# Altium footprint library MODULE_EK-TM4C123GXL.PcbLib: 1 footprints
Each footprint in its own frame and in the unit in brackets; x right, y up, seen from the top. Pads: shape width x height; smd on the part's side, far side on the other; paste and mask are expansions set on the pad; w line width, h text height; cw(c..) or ccw(c..) is an arc to the next point about the centre after c.
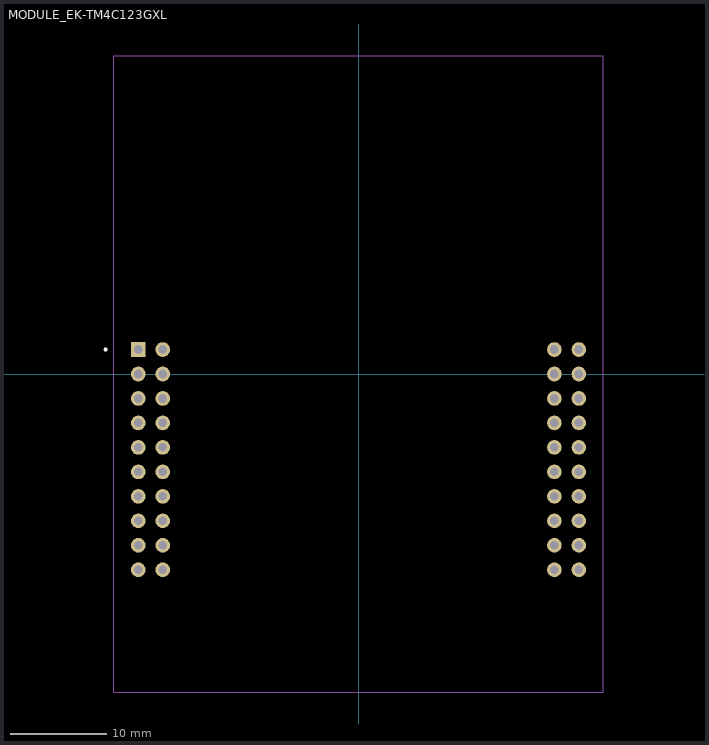
[diagram p0: the footprint, top view; thin cyan lines are the x and y axes]

## MODULE_EK-TM4C123GXL [mm]
pads (40):
  rect 1.52x1.52 hole 0.89: J1_1(-22.86,2.54)
  round 1.52 hole 0.89: J1_2(-22.86,0) J1_3(-22.86,-2.54) J1_4(-22.86,-5.08) J1_5(-22.86,-7.62) J1_6(-22.86,-10.16) J1_7(-22.86,-12.7) J1_8(-22.86,-15.24) J1_9(-22.86,-17.78) J1_10(-22.86,-20.32) J2_1(22.86,2.54) J2_2(22.86,0) J2_3(22.86,-2.54) J2_4(22.86,-5.08) J2_5(22.86,-7.62) J2_6(22.86,-10.16) J2_7(22.86,-12.7) J2_8(22.86,-15.24) J2_9(22.86,-17.78) J2_10(22.86,-20.32) J3_1(-20.32,2.54) J3_2(-20.32,0) J3_3(-20.32,-2.54) J3_4(-20.32,-5.08) J3_5(-20.32,-7.62) J3_6(-20.32,-10.16) J3_7(-20.32,-12.7) J3_8(-20.32,-15.24) J3_9(-20.32,-17.78) J3_10(-20.32,-20.32) J4_1(20.32,2.54) J4_2(20.32,0) J4_3(20.32,-2.54) J4_4(20.32,-5.08) J4_5(20.32,-7.62) J4_6(20.32,-10.16) J4_7(20.32,-12.7) J4_8(20.32,-15.24) J4_9(20.32,-17.78) J4_10(20.32,-20.32)
Top Overlay:
  circle w0.2: c-26.25,2.54 r0.1
Mechanical 13:
  circle w0.2: c-26.25,2.54 r0.1
  lines w0.127: -25.4,-33.02 -25.4,33.02 25.4,33.02 25.4,-33.02 -25.4,-33.02